# EAGLE library part BTS7960B (library SnapEDA-Library)
Half Bridge Motor Driver 7-Pin(6+Tab) TO-263
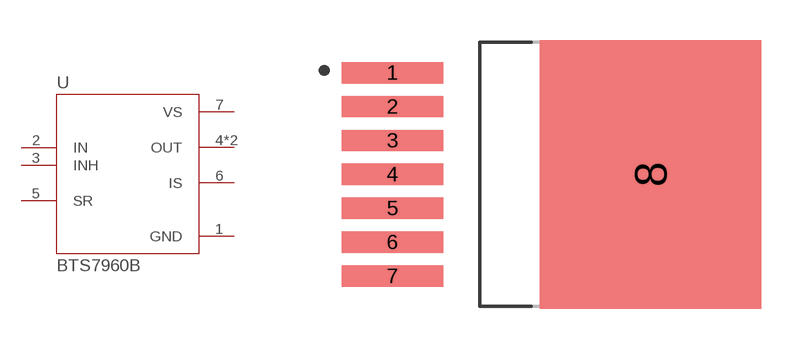
[diagram p1: symbol with the pads of DPAK127P1490X440-8N; footprint DPAK127P1490X440-8N]

Designator prefix U

## BTS7960B (MANUFACTURER: Infineon; MAXIMUM_PACKAGE_HEIGHT: 4.4mm; PARTREV: 1.1; STANDARD: IPC-7351B)  [DPAK127P1490X440-8N]
1  GND  pwr
2  IN  in
3  INH  in
4  OUT  out
5  SR  in
6  IS  out
7  VS  pwr
8  OUT  out

## Footprint DPAK127P1490X440-8N (pad centres in mm)
smd 3.81 x 0.8: 1 -5.95,3.81; 2 -5.95,2.54; 3 -5.95,1.27; 4 -5.95,0; 5 -5.95,-1.27; 6 -5.95,-2.54; 7 -5.95,-3.81
smd 8.29 x 10.07: 8 3.71,0